# Altium schematic symbol library schlib.SchLib: 20 symbols
Pins are listed as number, name and electrical type; pins without a type are passive.

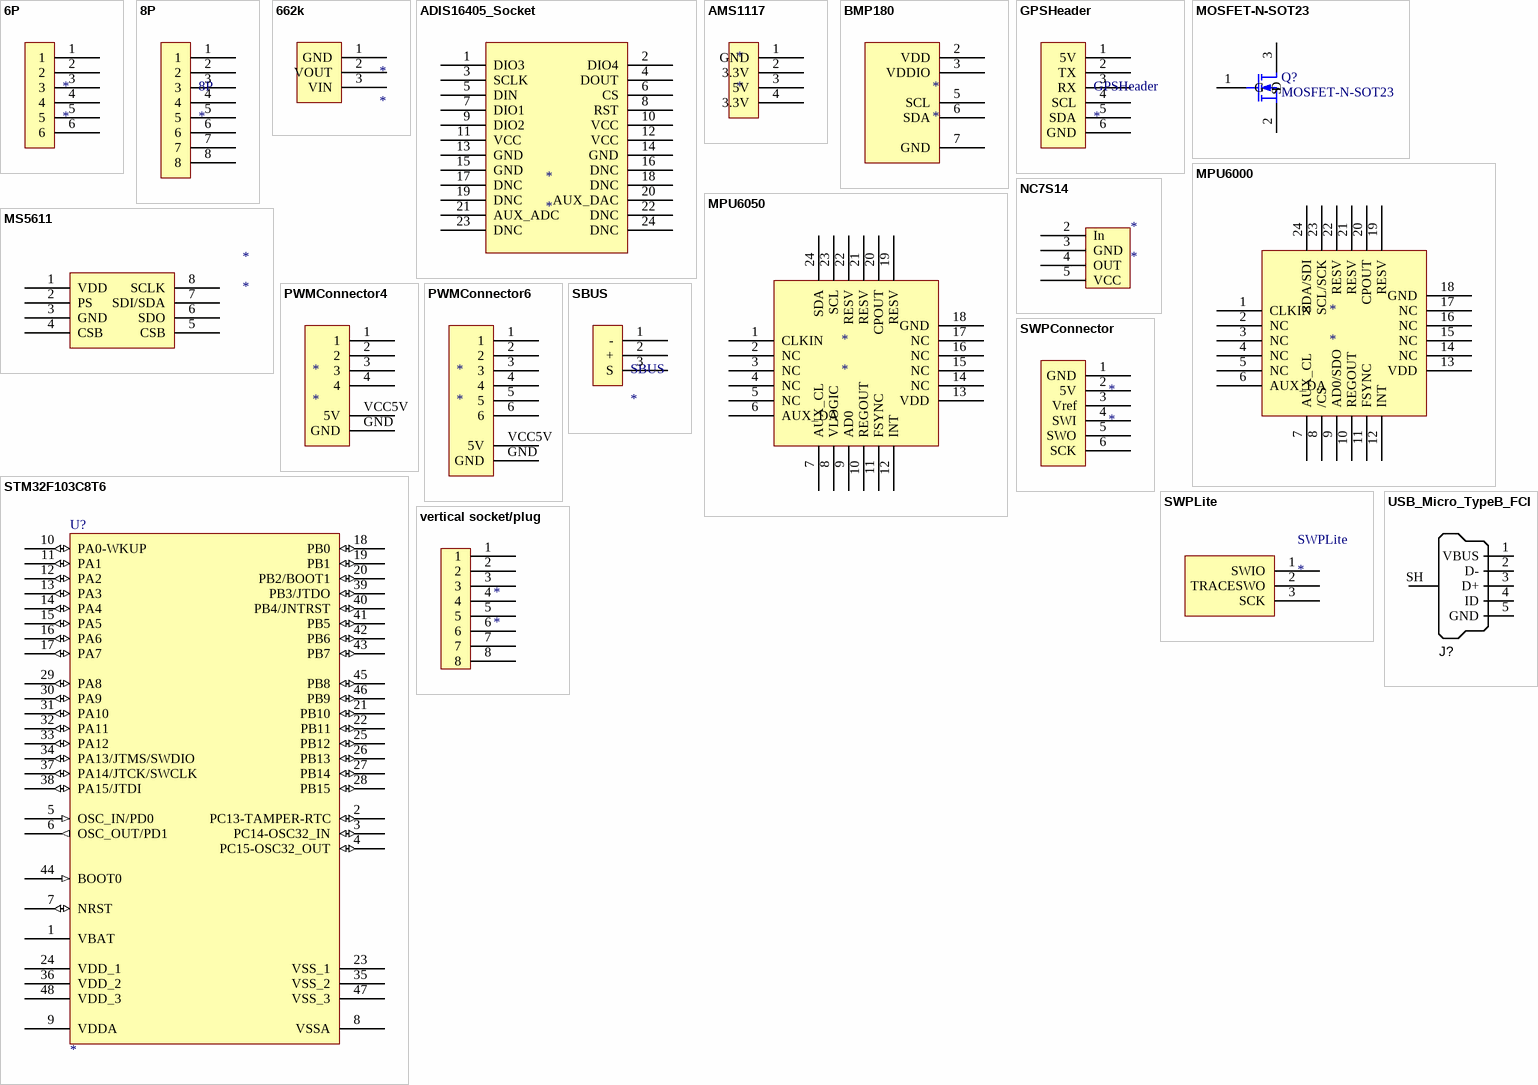
[diagram p0: symbols 6P to vertical socket/plug]

## 6P
designator *
footprint 6P
pins: 1, 2, 3, 4, 5, 6

## 8P
designator 8P
footprint 8P
pins: 1, 2, 3, 4, 5, 6, 7, 8

## 662k
designator *
footprint SOT23-3 (SOT23, 3-Leads, Body 2.9x1.3mm, Pitch 0.95mm, Lead Span 2.5mm, IPC Low Density)
pins: 1 GND, 2 VOUT, 3 VIN

## ADIS16405_Socket
designator *
footprint adis16405
pins: 1 DIO3, 2 DIO4, 3 SCLK, 4 DOUT, 5 DIN, 6 CS, 7 DIO1, 8 RST, 9 DIO2, 10 VCC, 11 VCC, 12 VCC, 13 GND, 14 GND, 15 GND, 16 DNC, 17 DNC, 18 DNC, 19 DNC, 20 AUX_DAC, 21 AUX_ADC, 22 DNC, 23 DNC, 24 DNC

## AMS1117
designator *
footprint SOT-223 (SOT-223/SC-73; 4 Leads; Body 6.7 x 7.3 mm, inc. leads (LxW max))
pins: 1 GND, 2 3.3V, 3 5V, 4 3.3V

## BMP180
designator *
footprint BMP180
pins: 2 VDD, 3 VDDIO, 5 SCL, 6 SDA, 7 GND

## GPSHeader
designator GPSHeader
footprint DF13C-6P-SMT
pins: 1 5V, 2 TX, 3 RX, 4 SCL, 5 SDA, 6 GND

## MOSFET-N-SOT23
designator Q?
N-Channel MOSFET; Published: 8-Jun-2000; LatestRevisionDate: 17-Jul-2002; LatestRevisionNote: Re-released for DXP Platform.; PackageVersion: 1995/1996; PackageReference: E3; Publisher: Altium Limited; PackageDescription: TO, Flat Index; 3 In-Line, Axial Leads; Body Dia. 4.6mm; Lead Dia. 0.5 mm (max)
simulation model NMOS (MOSFET-N)
footprint SOT23-3 (SOT23, 3-Leads, Body 2.9x1.3mm, Pitch 0.95mm, Lead Span 2.5mm, IPC Low Density)
pins: 1 G, 2 S, 3 D

## MPU6000
designator *
footprint MPU6050-2
pins: 1 CLKIN, 2 NC, 3 NC, 4 NC, 5 NC, 6 AUX_DA, 7 AUX_CL, 8 /CS, 9 AD0/SDO, 10 REGOUT, 11 FSYNC, 12 INT, 13 VDD, 14 NC, 15 NC, 16 NC, 17 NC, 18 GND, 19 RESV, 20 CPOUT, 21 RESV, 22 RESV, 23 SCL/SCK, 24 SDA/SDI

## MPU6050
designator *
footprint MPU6050-2
pins: 1 CLKIN, 2 NC, 3 NC, 4 NC, 5 NC, 6 AUX_DA, 7 AUX_CL, 8 VLOGIC, 9 AD0, 10 REGOUT, 11 FSYNC, 12 INT, 13 VDD, 14 NC, 15 NC, 16 NC, 17 NC, 18 GND, 19 RESV, 20 CPOUT, 21 RESV, 22 RESV, 23 SCL, 24 SDA

## MS5611
designator *
footprint MS5611
pins: 1 VDD, 2 PS, 3 GND, 4 CSB, 5 CSB, 6 SDO, 7 SDI/SDA, 8 SCLK

## NC7S14
designator *
footprint SOT23-5
pins: 2 In, 3 GND, 4 OUT, 5 VCC

## PWMConnector4
designator *
footprint PWMConnector4
pins: 1, 2, 3, 4, GND, VCC5V 5V

## PWMConnector6
designator *
footprint PWMConnector6
pins: 1, 2, 3, 4, 5, 6, GND, VCC5V 5V

## SBUS
designator SBUS
footprint SBUS
pins: 1 -, 2 +, 3 S

## STM32F103C8T6
designator U?
STM32 ARM-based 32-bit MCU with 64 Kbytes Flash, 48-pin LQFP, Industrial Temperature; Published: *; DatasheetVersion: *; PackageVersion: *; PackageReference: *; Publisher: *; PackageDescription: *; ComponentLink1Description: *; ComponentLink1URL: *; ComponentLink2Description: *; ComponentLink2URL: *
footprint LQFP48_L
pins: 1 VBAT (power), 2 PC13-TAMPER-RTC (io), 3 PC14-OSC32_IN (io), 4 PC15-OSC32_OUT (io), 5 OSC_IN/PD0 (in), 6 OSC_OUT/PD1 (out), 7 NRST (io), 8 VSSA (power), 9 VDDA (power), 10 PA0-WKUP (io), 11 PA1 (io), 12 PA2 (io), 13 PA3 (io), 14 PA4 (io), 15 PA5 (io), 16 PA6 (io), 17 PA7 (io), 18 PB0 (io), 19 PB1 (io), 20 PB2/BOOT1 (io), 21 PB10 (io), 22 PB11 (io), 23 VSS_1 (power), 24 VDD_1 (power), 25 PB12 (io), 26 PB13 (io), 27 PB14 (io), 28 PB15 (io), 29 PA8 (io), 30 PA9 (io), 31 PA10 (io), 32 PA11 (io), 33 PA12 (io), 34 PA13/JTMS/SWDIO (io), 35 VSS_2 (power), 36 VDD_2 (power), 37 PA14/JTCK/SWCLK (io), 38 PA15/JTDI (io), 39 PB3/JTDO (io), 40 PB4/JNTRST (io), 41 PB5 (io), 42 PB6 (io), 43 PB7 (io), 44 BOOT0 (in), 45 PB8 (io), 46 PB9 (io), 47 VSS_3 (power), 48 VDD_3 (power)
2 alternate drawings of the same symbol

## SWPConnector
designator *
pins: 1 GND, 2 5V, 3 Vref, 4 SWI, 5 SWO, 6 SCK

## SWPLite
designator SWPLite
footprint SWPLite
pins: 1 SWIO, 2 TRACESWO, 3 SCK

## USB_Micro_TypeB_FCI
designator J?, comment USB Micro Type B (recommended if hand soldering)  (value not drawn)
Connector SMD-THD USB Micro Type B middle mount; Manufacturer 1: FCI; Manufacturer Part Number 1: 10103593-0001LF; SCDType: undef; Package / Case: SMD/THD mid-mount; Supplier 1: Digi-Key; Supplier Part Number 1: 609-4049-1-ND
footprint USB_Micro-B_FCI_SMD
pins: 1 VBUS, 2 D-, 3 D+, 4 ID, 5 GND, SH Shell

## vertical socket/plug
designator *
footprint vert_socket
footprint vert_plug
pins: 1, 2, 3, 4, 5, 6, 7, 8